# Altium schematic symbol library SCH - POWER - LINEAR VREG - TI TPS74301KTW.SchLib: 1 symbol
Pins are listed as number, name and electrical type; pins without a type are passive.

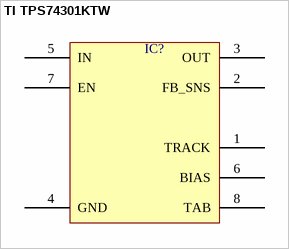
[diagram p0: symbol TI TPS74301KTW]

## TI TPS74301KTW
designator IC?  (value not drawn)
pins: 1 TRACK, 2 FB_SNS, 3 OUT, 4 GND, 5 IN, 6 BIAS, 7 EN, 8 TAB